# Altium integrated library Components - 05.08.25 - 14.49.IntLib: 1 symbol
Pins are listed as number, name and electrical type; pins without a type are passive.

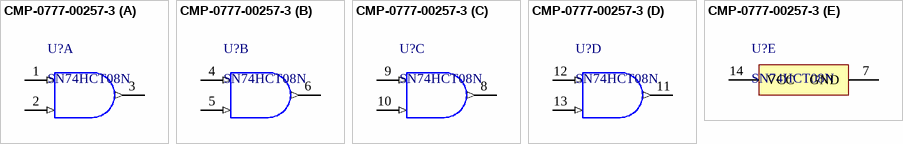
[diagram p0: symbol CMP-0777-00257-3]

## CMP-0777-00257-3
designator U?, comment SN74HCT08N
Quadruple 2-Input Positive-AND Gates, N0014A, TUBE; Manufacturer: Texas Instruments; VCC(Max)(V): 5.5; Technology Family: HCT; tpd @ Nom Voltage(Max)(ns): 27; F @ Nom Voltage(Max)(Mhz): 25; ICC @ Nom Voltage(Max)(mA): 0.02; Rating: Catalog; Output Drive (IOL/IOH)(Max)(mA): -5.2/5.2; Output Type: CMOS; Input Type: TTL; Voltage(Nom)(V): 5; Schmitt Trigger: Yes; VCC(Min)(V): 4.5; Bits(#): 4; Generic Part Number: SN74HCT08; DatasheetVersion: SCLS063D; Operating Temperature Range(C): -40 to 85; PackageReference: N0014A
footprint N0014A (DIP, 14-Leads, Body 19.7x6.6mm, Pitch 2.54mm)
part A pins: 1 1A (in), 2 1B (in), 3 1Y (out)
part B pins: 4 2A (in), 5 2B (in), 6 2Y (out)
part C pins: 8 3Y (out), 9 3A (in), 10 3B (in)
part D pins: 11 4Y (out), 12 4A (in), 13 4B (in)
part E pins: 7 GND (power), 14 VCC (power)